# Altium footprint library AMPHENOL_10129381-912001BLF.PcbLib: 1 footprints
Each footprint in its own frame and in the unit in brackets; x right, y up, seen from the top. Pads: shape width x height; smd on the part's side, far side on the other; paste and mask are expansions set on the pad; w line width, h text height; cw(c..) or ccw(c..) is an arc to the next point about the centre after c.
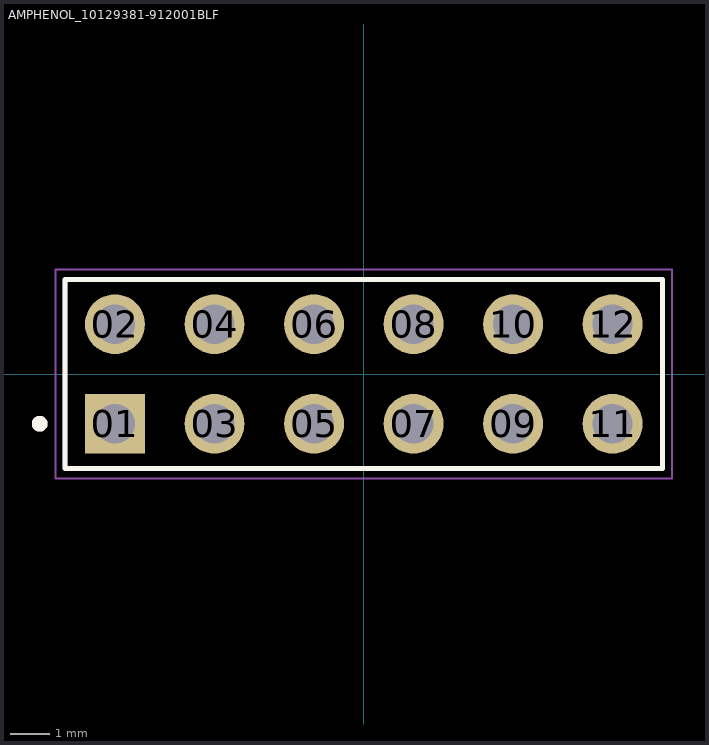
[diagram p0: the footprint, top view; thin cyan lines are the x and y axes]

## AMPHENOL_10129381-912001BLF [mm]
pads (12):
  rect 1.53x1.53 / inner round 1.53 / far side rect 1.53x1.53 hole 1.02: 01(-6.35,-1.27)
  round 1.53 hole 1.02: 02(-6.35,1.27) 03(-3.81,-1.27) 04(-3.81,1.27) 05(-1.27,-1.27) 06(-1.27,1.27) 07(1.27,-1.27) 08(1.27,1.27) 09(3.81,-1.27) 10(3.81,1.27) 11(6.35,-1.27) 12(6.35,1.27)
Top Overlay:
  circle w0.2: c-8.27,-1.27 r0.1
  lines w0.127: -7.62,-2.415 7.62,-2.415 7.62,2.415 -7.62,2.415 -7.62,-2.415
Mechanical 13:
  circle w0.2: c-8.27,-1.27 r0.1
  lines w0.127: -7.62,-2.415 -7.62,2.415 ; -7.62,-2.415 7.62,-2.415 ; -7.62,-2.415 -7.62,2.415 ; -7.62,2.415 7.62,2.415 ; -7.62,2.415 7.62,2.415 ; 7.62,-2.415 7.62,2.415 ; 7.62,-2.415 7.62,2.415
Mechanical 15:
  lines w0.05: -7.87,-2.665 7.87,-2.665 7.87,2.665 -7.87,2.665 -7.87,-2.665
3D body "step_temp.STEP": height 8.69, standoff -2.74, extent -7.62,-2.417 7.62,2.413